# Altium footprint library Diodes$.PcbLib: 39 footprints (part 1 of 3)
Each footprint in its own frame and in the unit in brackets; x right, y up, seen from the top. Pads: shape width x height; smd on the part's side, far side on the other; paste and mask are expansions set on the pad; w line width, h text height; cw(c..) or ccw(c..) is an arc to the next point about the centre after c.
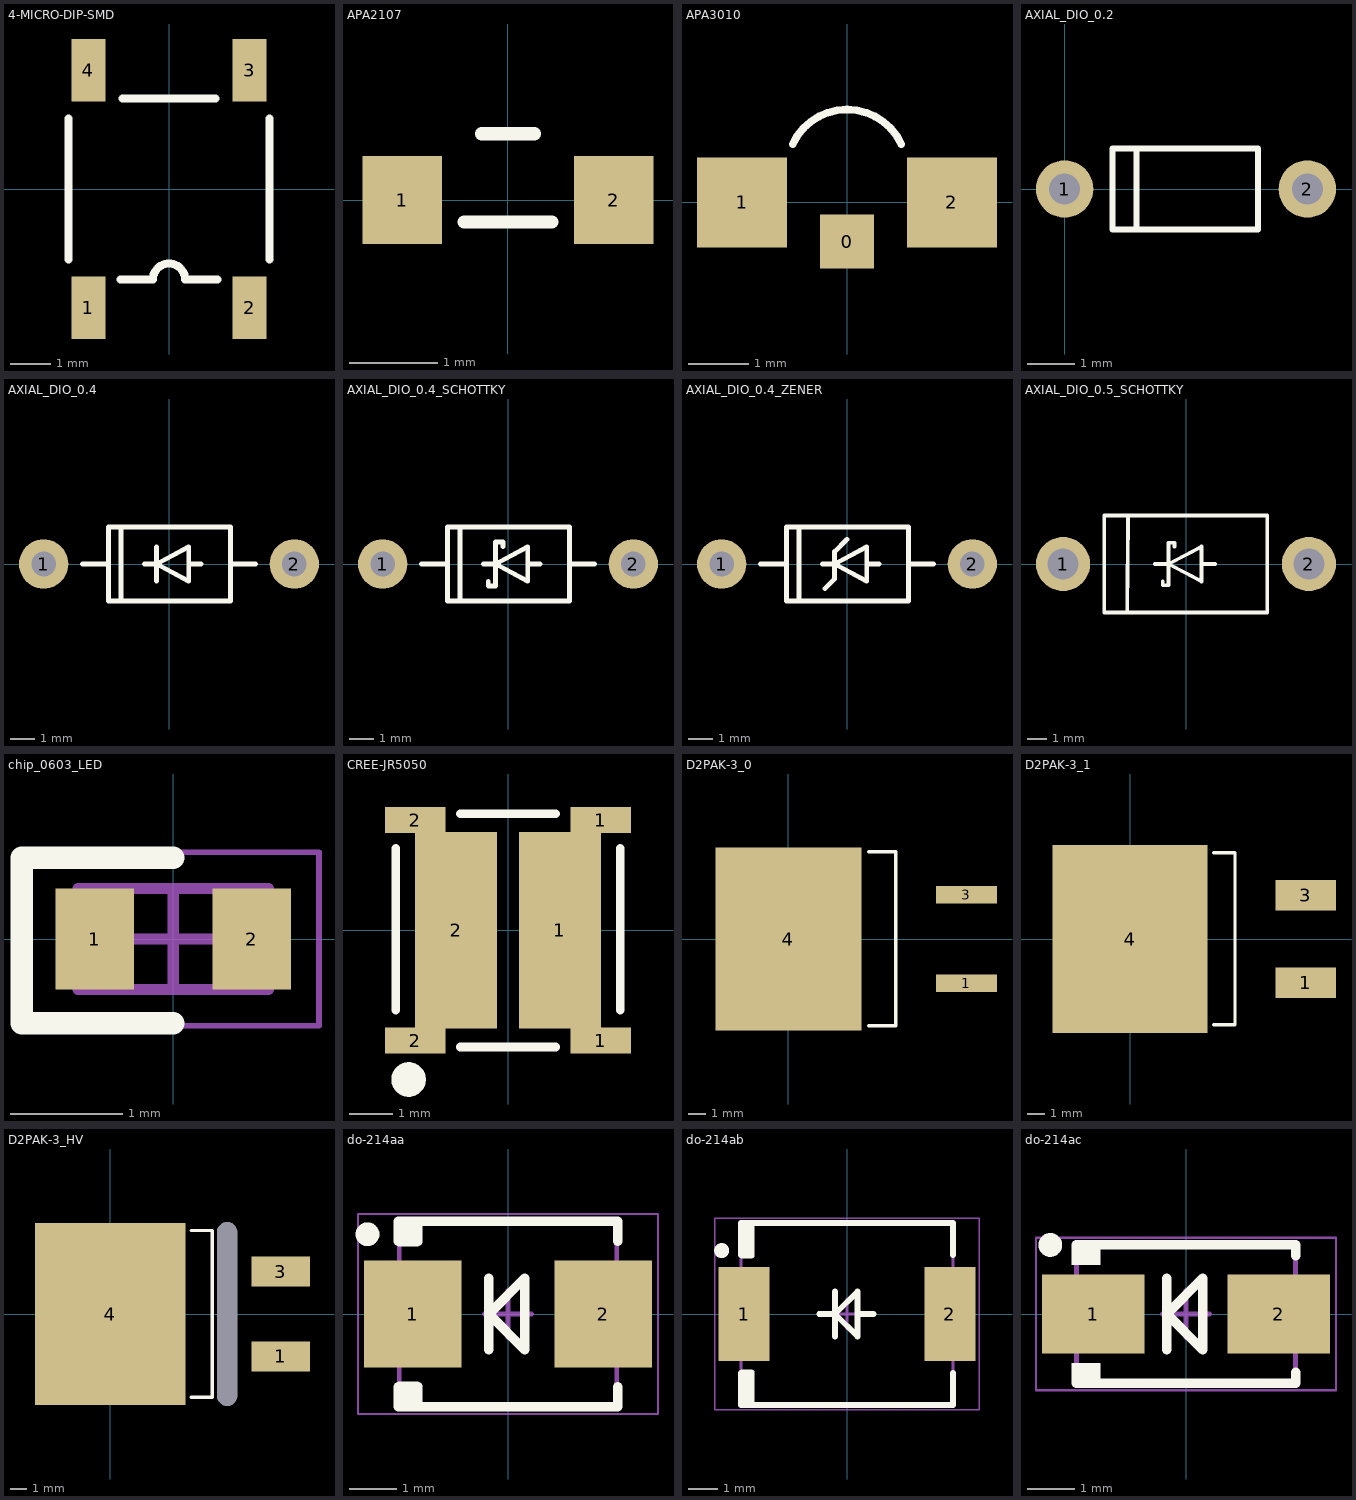
[diagram p0: the footprints below, top view; thin cyan lines are the x and y axes]

## 4-MICRO-DIP-SMD [mm]
pads (4):
  rect 0.85x1.55 smd: 1(-2,-2.95) 2(2,-2.95) 3(2,2.95) 4(-2,2.95)
Top Overlay:
  lines w0.2: -2.5,-1.75 -2.5,1.75 ; -1.2,-2.25 -0.4,-2.25 cw(c0,-2.25) 0.4,-2.25 1.2,-2.25 ; -1.15,2.25 1.15,2.25 ; 2.5,-1.75 2.5,1.75
3D body: height 1.3, standoff 0, extent -2.5,-2.25 2.5,2.25

## APA2107 [mm] "LED, SMD Right-Angle"
pads (2):
  rect 0.9x1 smd: 1(-1.2,0) 2(1.2,0)
Top Overlay:
  lines w0.15: -0.5,-0.25 0.5,-0.25 ; -0.3,0.75 0.3,0.75
3D body "APA2107.sldprt": height 0.6, standoff 0, extent -1.05,-0.251 1.05,0.75

## APA3010 [mm] "SMD Right Angle LED"
pads (3):
  rect 0.9x0.9 smd: 0(0,-0.65)
  rect 1.5x1.5 smd: 1(-1.75,0) 2(1.75,0)
Top Overlay:
  lines w0.127: -0.906,0.973 cw(c0,0.55) 0.906,0.973
3D body "APA3010.STEP": height 0.99, standoff -0.01, extent -1.5,-0.5 1.5,1.5

## AXIAL_DIO_0.2 [mm] "Axial Diode 0.2\" lead spacing"
pads (2):
  round 1.2 hole 0.65: 1(0,0) 2(5.08,0)
Top Overlay:
  lines w0.127: 1.5,-0.85 1.5,0.85 ; 1,-0.85 1,0.85 4.05,0.85 4.05,-0.85 1,-0.85
3D body "AXIAL_DIO_0.2.SLDPRT": height 1.9, standoff -2.5, extent -0.239,-0.9 5.34,0.9

## AXIAL_DIO_0.4 [mm] "Axial Diode 0.4\" lead spacing"
pads (2):
  round 2 hole 1: 1(-5.08,0) 2(5.08,0)
Top Overlay:
  lines w0.2: -3.5,0 -2.45,0 ; -1,0 -0.5,0 ; -0.5,-0.7 -0.5,0.7 ; 0.8,0 1.3,0 ; 2.5,0 3.5,0 ; -1.95,-1.5 2.5,-1.5 2.5,1.5 -1.95,1.5 ; -1.95,-1.5 -1.95,1.5 ; -1.95,-1.5 -2.45,-1.5 -2.45,1.5 -1.95,1.5 ; -0.5,0 0.8,0.7 0.8,-0.7 -0.5,0
3D body "AXIAL_DIO_0.4.SLDPRT": height 3.1, standoff -2.4, extent -5.329,-1.5 5.33,1.488

## AXIAL_DIO_0.4_SCHOTTKY [mm] "Axial Diode 0.4\" lead spacing"
pads (2):
  round 2 hole 1: 1(-5.08,0) 2(5.08,0)
Top Overlay:
  lines w0.2: -3.5,0 -2.45,0 ; -1,0 -0.5,0 ; -0.8,-0.7 -0.8,-0.9 -0.5,-0.9 -0.5,0.9 -0.2,0.9 -0.2,0.7 ; 0.8,0 1.3,0 ; 2.5,0 3.5,0 ; -1.95,-1.5 -2.45,-1.5 -2.45,1.5 -1.95,1.5 ; -1.95,-1.5 -1.95,1.5 ; -1.95,-1.5 2.5,-1.5 2.5,1.5 -1.95,1.5 ; -0.5,0 0.8,-0.7 0.8,0.7 -0.5,0
3D body "AXIAL_DIO_0.4.SLDPRT": height 3.1, standoff -2.4, extent -5.329,-1.5 5.33,1.488

## AXIAL_DIO_0.4_ZENER [mm] "Axial Diode 0.4\" lead spacing"
pads (2):
  round 2 hole 1: 1(-5.08,0) 2(5.08,0)
Top Overlay:
  lines w0.2: -3.5,0 -2.45,0 ; -1,0 -0.5,0 ; -0.9,-1 -0.5,-0.6 -0.5,0.5 0,1 ; 0.8,0 1.3,0 ; 2.5,0 3.5,0 ; -1.95,-1.5 2.5,-1.5 2.5,1.5 -1.95,1.5 ; -1.95,-1.5 -1.95,1.5 ; -1.95,-1.5 -2.45,-1.5 -2.45,1.5 -1.95,1.5 ; -0.5,0 0.8,0.7 0.8,-0.7 -0.5,0
3D body "AXIAL_DIO_0.4.SLDPRT": height 3.1, standoff -2.4, extent -5.329,-1.5 5.33,1.488

## AXIAL_DIO_0.5_SCHOTTKY [mm] "Axial Diode 0.5\" lead spacing - Schottky"
pads (2):
  round 2.8 hole 1.6: 1(-6.35,0) 2(6.35,0)
Top Overlay:
  lines w0.2: -4.225,-2.5 -4.225,2.5 ; -4.2,-2.5 4.2,-2.5 4.2,2.5 -4.2,2.5 ; -3.034,-2.5 -3,2.5 ; -1.6,0 -0.9,0 ; -1.2,-0.9 -1.2,-1.1 -0.9,-1.1 -0.9,1.1 -0.6,1.1 -0.6,0.9 ; 0.8,0 1.5,0 ; -0.9,0 0.8,0.9 0.8,-0.9 -0.9,0
3D body "AXIAL_DIO_0.5.SLDPRT": height 5.1, standoff -1.8, extent -6.974,-2.5 6.974,2.5

## chip_0603_LED [mm]
height 0.6
pads (2):
  rect 0.7x0.9 smd: 1(-0.7,0) 2(0.7,0)
Top Overlay:
  lines w0.2: 0,-0.75 -1.35,-0.75 -1.35,0.725 0,0.725
Mechanical 13:
  lines w0.1: -0.85,-0.45 -0.85,0.45 0.85,0.45 0.85,-0.45 -0.85,-0.45
Mechanical 15:
  lines w0.05: -1.375,-0.775 -1.375,0.775 1.3,0.775 1.3,-0.775 -1.375,-0.775
  lines w0.1: -0.45,0 0.45,0 ; 0,-0.45 0,0.45
3D body: height 0.6, standoff 0, extent -0.55,-0.45 0.55,0.45
3D body: height 0.6, standoff 0, extent -0.85,-0.45 -0.55,0.45
3D body: height 0.6, standoff 0, extent 0.55,-0.45 0.85,0.45

## CREE-JR5050 [mm] "Cree Inc J Series 5050 LED"
pads (6):
  rect 1.9x4.54 smd paste-0.2 mask+0.05: 1(1.2,0) 2(-1.2,0)
  rect 1.4x0.6 smd paste-1 mask+0.05: 1(2.15,-2.55) 1(2.15,2.55) 2(-2.15,-2.55) 2(-2.15,2.55)
Top Overlay:
  circle w0.4: c-2.3,-3.45 r0.2
  lines w0.2: -2.6,-1.85 -2.6,1.9 ; -1.1,-2.7 1.1,-2.7 ; -1.1,2.7 1.1,2.7 ; 2.6,-1.85 2.6,1.9
3D body: height 1.25, standoff 0, extent -2.5,-2.6 2.5,2.6

## D2PAK-3_0 [mm]
pads (3):
  rect 3.504x1.016 smd: 1(10.213,-2.54) 3(10.213,2.54)
  rect 8.38x10.49 smd: 4(0,0)
Top Overlay:
  lines w0.2: 4.6,-4.975 6.15,-4.975 6.15,5 4.6,5
3D body: height 1.25, standoff 0, extent -4,-5 -3.3,5
3D body "TO263-2-1.stp": height 4.22, standoff 0, extent -3.786,-4.911 10.8,4.911

## D2PAK-3_1 [mm] "slightly larger pads that *_0"
pads (3):
  rect 3.504x1.78 smd: 1(10.213,-2.54) 3(10.213,2.54)
  rect 9.02x10.92 smd: 4(0,0)
Top Overlay:
  lines w0.2: 4.85,-4.975 6.1,-4.975 6.1,5 4.85,5
3D body: height 1.25, standoff 0, extent -4,-5 -3.3,5
3D body "TO263-2-1.stp": height 4.22, standoff 0, extent -3.841,-4.861 10.744,4.961

## D2PAK-3_HV [mm] "High Voltage D2PAK"
pads (4):
  round 0 hole 1.2 slot 11 at 90 deg unplated: 0(7,0)
  rect 3.504x1.78 smd: 1(10.213,-2.54) 3(10.213,2.54)
  rect 9.02x10.92 smd: 4(0,0)
Top Overlay:
  lines w0.2: 4.85,-4.975 6.1,-4.975 6.1,5 4.85,5
3D body: height 1.25, standoff 0, extent -4,-5 -3.3,5
3D body "TO263-2-1.stp": height 4.22, standoff 0, extent -3.841,-4.861 10.744,4.961

## do-214aa [mm] "DO-214AA, SMB"
height 2.5
pads (2):
  rect 2.05x2.25 smd: 1(-2,0) 2(2,0)
Top Overlay:
  circle w0.25: c-2.95,1.675 r0.125
  region: -2.3,1.95 -2.3,1.425 -1.9,1.425 -1.88,1.425 -1.843,1.44 -1.815,1.468 -1.8,1.505 -1.8,1.525 -1.8,1.95
  region: -2.3,-1.95 -2.3,-1.425 -1.9,-1.425 -1.88,-1.425 -1.843,-1.44 -1.815,-1.468 -1.8,-1.505 -1.8,-1.525 -1.8,-1.95
  lines w0.2: -2.3,-1.525 -2.3,-1.95 2.3,-1.95 2.3,-1.525 ; -2.3,1.525 -2.3,1.95 2.3,1.95 2.3,1.525 ; -0.4,-0.75 -0.4,0 ; -0.4,0.75 -0.4,0 ; -0.4,0 0.35,-0.75 0.35,0.75 -0.4,0
Mechanical 13:
  lines w0.1: -2.285,-1.97 2.285,-1.97 2.285,1.97 -2.285,1.97 -2.285,-1.97
Mechanical 15:
  lines w0.05: -3.15,-2.1 3.15,-2.1 3.15,2.1 -3.15,2.1 -3.15,-2.1
  lines w0.1: -0.5,0 0.5,0 ; 0,-0.5 0,0.5
3D body: height 2.5, standoff 0, extent -2.285,-1.97 2.285,1.97

## do-214ab [mm] "DO-214AB, SMC"
height 2.41
pads (2):
  rect 1.7x3.15 smd: 1(-3.45,0) 2(3.45,0)
Top Overlay:
  circle w0.25: c-4.2,2.125 r0.125
  region: -3.55,1.975
  region: -3.55,1.875 -3.2,1.875 -3.18,1.875 -3.143,1.89 -3.115,1.918 -3.1,1.955 -3.1,1.975 -3.1,3.05 -3.55,3.05
  region: -3.55,-1.875 -3.2,-1.875 -3.18,-1.875 -3.143,-1.89 -3.115,-1.918 -3.1,-1.955 -3.1,-1.975 -3.1,-3.05 -3.55,-3.05
  lines w0.2: -3.55,-1.975 -3.55,-3.05 3.55,-3.05 3.55,-1.975 ; -3.55,1.975 -3.55,3.05 3.55,3.05 3.55,1.975 ; -0.93,0 -0.4,0 ; -0.4,-0.75 -0.4,0 ; -0.4,0.75 -0.4,0 ; 0.35,0 0.88,0 ; -0.4,0 0.35,0.75 0.35,-0.75 -0.4,0
Mechanical 13:
  lines w0.1: -3.555,-3.05 -3.555,3.05 3.555,3.05 3.555,-3.05 -3.555,-3.05
Mechanical 15:
  lines w0.05: -4.425,-3.2 -4.425,3.2 4.425,3.2 4.425,-3.2 -4.425,-3.2
  lines w0.1: -0.5,0 0.5,0 ; 0,-0.5 0,0.5
3D body: height 2.41, standoff 0, extent -3.555,-3.05 3.555,3.05

## do-214ac [mm] "DO-214AC, SMA"
height 2.3
pads (2):
  rect 2.15x1.65 smd: 1(-1.95,0) 2(1.95,0)
Top Overlay:
  circle w0.25: c-2.85,1.45 r0.125
  rectangle: -2.4,-1.45 -1.8,-1.03
  rectangle: -2.4,1.03 -1.8,1.45
  lines w0.2: -2.3,-1.13 -2.3,-1.45 2.3,-1.45 2.3,-1.225 ; -2.3,1.13 -2.3,1.45 2.3,1.45 2.3,1.225 ; -0.4,-0.75 -0.4,0 ; -0.4,0.75 -0.4,0 ; -0.4,0 0.35,0.75 0.35,-0.75 -0.4,0
Mechanical 13:
  lines w0.1: -2.3,-1.46 2.3,-1.46 2.3,1.46 -2.3,1.46 -2.3,-1.46
Mechanical 15:
  lines w0.05: -3.15,-1.6 3.15,-1.6 3.15,1.6 -3.15,1.6 -3.15,-1.6
  lines w0.1: -0.5,0 0.5,0 ; 0,-0.5 0,0.5
3D body: height 2.3, standoff 0, extent -2.3,-1.46 2.3,1.46